# Altium footprint library ERZ-VF2M270.PcbLib: 1 footprints
Each footprint in its own frame and in the unit in brackets; x right, y up, seen from the top. Pads: shape width x height; smd on the part's side, far side on the other; paste and mask are expansions set on the pad; w line width, h text height; cw(c..) or ccw(c..) is an arc to the next point about the centre after c.
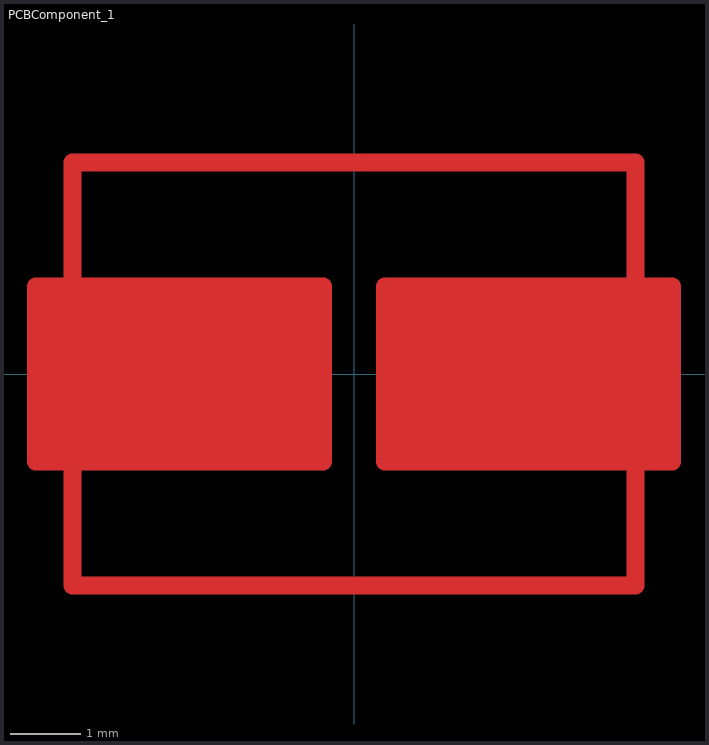
[diagram p0: the footprint, top view; thin cyan lines are the x and y axes]

## PCBComponent_1 [mm]
Top Layer:
  rectangle: 0.44,-1.25 4.55,1.25
  rectangle: -4.55,-1.25 -0.44,1.25
  lines w0.254: -4.55,-1.25 -0.44,-1.25 -0.44,1.25 -4.55,1.25 -4.55,-1.25 ; -4.025,-3.025 -4.025,3.025 0,3.025 4.025,3.025 4.025,-3.025 0,-3.025 -4.025,-3.025 ; 0.44,-1.25 4.55,-1.25 4.55,1.25 0.44,1.25 0.44,-1.25